# EAGLE library part ATMEGA328P-AU (library HyTechDevices-ltc4421 components)
ATmega Series 20 MHz 32 KB Flash 2 KB SRAM 8-Bit Microcontroller - TQFP-32
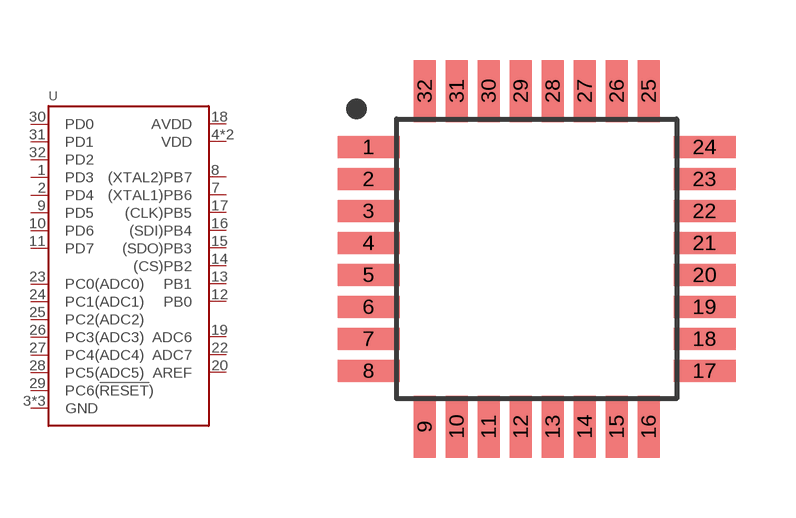
[diagram p23: symbol with the pads of TQFP-32; footprint TQFP-32]

Designator prefix U

## ATMEGA328P-AU (AVAILABILITY: Unavailable; DESCRIPTION: AVR AVR® ATmega Microcontroller IC 8-Bit 20MHz 32KB _16K x 16_ FLASH 32-TQFP _7x7_; MF: Microchip; MP: ATMEGA328P-AU; PACKAGE: TQFP-32 Microchip; PRICE: None)  [TQFP-32]
1  PD3
2  PD4
3  GND  pwr
4  VDD  pwr
5  GND  pwr
6  VDD  pwr
7  (XTAL1)PB6
8  (XTAL2)PB7
9  PD5
10  PD6
11  PD7
12  PB0
13  PB1
14  (CS)PB2
15  (SDO)PB3
16  (SDI)PB4
17  (CLK)PB5
18  AVDD  pwr
19  ADC6
20  AREF  in
21  GND  pwr
22  ADC7
23  PC0(ADC0)
24  PC1(ADC1)
25  PC2(ADC2)
26  PC3(ADC3)
27  PC4(ADC4)
28  PC5(ADC5)
29  PC6(!RESET!)
30  PD0
31  PD1
32  PD2

## Footprint TQFP-32 (pad centres in mm)
TQFP 32 7x7 mm Datasheet <https://www.analog.com/media/en/package-pcb-resources/package/pkg_pdf/ltc-legacy-tqfp/TQFP_32_05-08-1735.pdf>
smd 1.55 x 0.55: 1 -4.2,2.8; 2 -4.2,2; 3 -4.2,1.2; 4 -4.2,0.4; 5 -4.2,-0.4; 6 -4.2,-1.2; 7 -4.2,-2; 8 -4.2,-2.8; 17 4.2,-2.8; 18 4.2,-2; 19 4.2,-1.2; 20 4.2,-0.4; 21 4.2,0.4; 22 4.2,1.2; 23 4.2,2; 24 4.2,2.8
smd 0.55 x 1.55: 9 -2.8,-4.2; 10 -2,-4.2; 11 -1.2,-4.2; 12 -0.4,-4.2; 13 0.4,-4.2; 14 1.2,-4.2; 15 2,-4.2; 16 2.8,-4.2; 25 2.8,4.2; 26 2,4.2; 27 1.2,4.2; 28 0.4,4.2; 29 -0.4,4.2; 30 -1.2,4.2; 31 -2,4.2; 32 -2.8,4.2